# Altium footprint library mag_pos.PcbLib: 7 footprints
Each footprint in its own frame and in the unit in brackets; x right, y up, seen from the top. Pads: shape width x height; smd on the part's side, far side on the other; paste and mask are expansions set on the pad; w line width, h text height; cw(c..) or ccw(c..) is an arc to the next point about the centre after c.
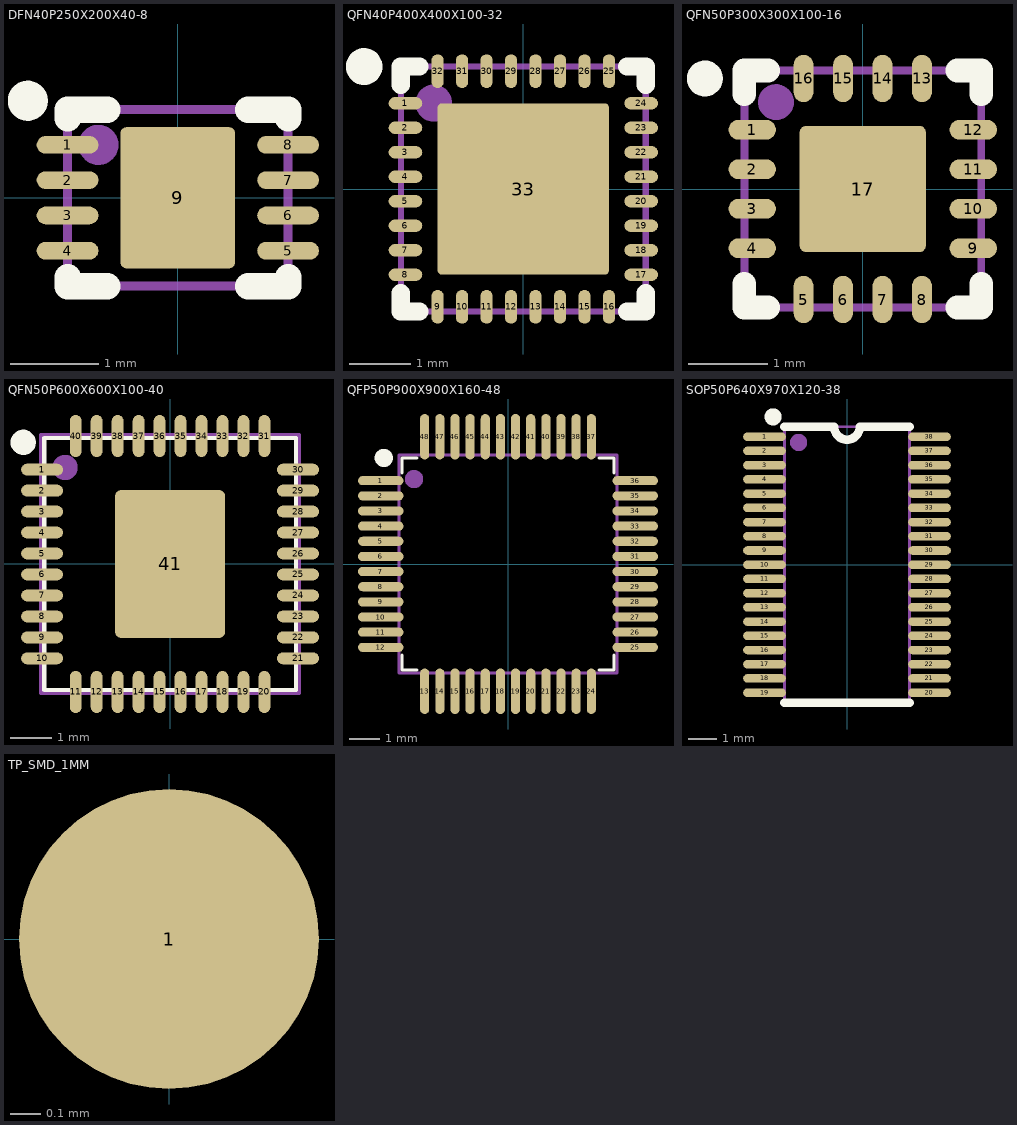
[diagram p0: the footprints below, top view; thin cyan lines are the x and y axes]

## DFN40P250X200X40-8 [mm] "Dual flat no-lead package - 16Pin - 0.4mm spacing - 0.4mm height"
height 0.4
pads (9):
  oval 0.7x0.2 smd: 1(-1.25,0.6) 2(-1.25,0.2) 3(-1.25,-0.2) 4(-1.25,-0.6) 5(1.25,-0.6) 6(1.25,-0.2) 7(1.25,0.2) 8(1.25,0.6)
  rrect10% 1.3x1.6 smd paste-2: 9(0,0)
Top Overlay:
  circle w0.254: c-1.7,1.1 r0.1
  lines w0.3: -1.25,-0.9 -1.25,-1 -0.8,-1 ; -1.25,0.9 -1.25,1 -0.8,1 ; 0.8,-1 1.25,-1 1.25,-0.9 ; 0.8,1 1.25,1 1.25,0.9
Top Paste:
  region: 0.1,0.2 0.5,0.2 0.5,0.6 0.1,0.6
  region: -0.1,-0.2 -0.5,-0.2 -0.5,-0.6 -0.1,-0.6
  region: 0.1,-0.2 0.1,-0.6 0.5,-0.6 0.5,-0.2
  region: -0.1,0.2 -0.1,0.6 -0.5,0.6 -0.5,0.2
Top Assembly:
  circle w0.254: c-0.9,0.6 r0.1
  lines w0.1: -1.25,-1 1.25,-1 1.25,1 -1.25,1 -1.25,-1
  text "'.Designator'" at -1.25,1.376 h2
3D body: height 0.41, standoff 0.4, extent -1.197,0.301 -0.6,0.9
3D body: height 0.2, standoff 0, extent -1.251,-0.7 -0.851,-0.5
3D body: height 0.2, standoff 0, extent -1.251,-0.3 -0.851,-0.1
3D body: height 0.2, standoff 0, extent -1.251,0.1 -0.851,0.3
3D body: height 0.2, standoff 0, extent -1.251,0.5 -0.851,0.7
3D body: height 0.4, standoff 0.05, extent -1.25,-1 1.25,1
3D body: height 0.2, standoff 0, extent -0.65,-0.8 0.65,0.8
3D body: height 0.2, standoff 0, extent 0.851,0.1 1.251,0.3
3D body: height 0.2, standoff 0, extent 0.851,0.5 1.251,0.7
3D body: height 0.2, standoff 0, extent 0.851,-0.7 1.251,-0.5
3D body: height 0.2, standoff 0, extent 0.851,-0.3 1.251,-0.1

## QFN40P400X400X100-32 [mm] "Quad flat no-lead package - 32Pin - 0.4mm spacing - 1mm height"
height 1
pads (33):
  oval 0.55x0.2 smd: 1(-1.925,1.4) 2(-1.925,1) 3(-1.925,0.6) 4(-1.925,0.2) 5(-1.925,-0.2) 6(-1.925,-0.6) 7(-1.925,-1) 8(-1.925,-1.4) 17(1.925,-1.4) 18(1.925,-1) 19(1.925,-0.6) 20(1.925,-0.2) 21(1.925,0.2) 22(1.925,0.6) 23(1.925,1) 24(1.925,1.4)
  oval 0.2x0.55 smd: 9(-1.4,-1.925) 10(-1,-1.925) 11(-0.6,-1.925) 12(-0.2,-1.925) 13(0.2,-1.925) 14(0.6,-1.925) 15(1,-1.925) 16(1.4,-1.925) 25(1.4,1.925) 26(1,1.925) 27(0.6,1.925) 28(0.2,1.925) 29(-0.2,1.925) 30(-0.6,1.925) 31(-1,1.925) 32(-1.4,1.925)
  rrect5% 2.8x2.8 smd paste-2: 33(0,0)
Top Overlay:
  circle w0.4: c-2.6,2 r0.1
  lines w0.3: -2,-1.7 -2,-2 -1.7,-2 ; -2,1.7 -2,2 -1.7,2 ; 1.7,-2 2,-2 2,-1.7 ; 1.7,2 2,2 2,1.7
Top Paste:
  region: 0.1,0.1 1.33,0.1 1.33,1.33 0.1,1.33
  region: 0.1,-0.1 0.1,-1.33 1.33,-1.33 1.33,-0.1
  region: -0.1,-0.1 -1.33,-0.1 -1.33,-1.33 -0.1,-1.33
  region: -0.1,0.1 -0.1,1.33 -1.33,1.33 -1.33,0.1
Top Assembly:
  circle w0.4: c-1.463,1.404 r0.1
  lines w0.1: -2,-2 -2,2 2,2 2,-2 -2,-2
  text "'.Designator'" at -2.3,2.576 h2
3D body: height 0.1, standoff 0, extent -2.001,-1.5 -1.664,-1.3
3D body: height 0.1, standoff 0, extent -2.001,1.3 -1.664,1.5
3D body: height 0.1, standoff 0, extent -1.5,1.664 -1.3,2.001
3D body: height 0.1, standoff 0, extent 1.3,1.664 1.5,2.001
3D body: height 0.1, standoff 0, extent 1.664,1.3 2.001,1.5
3D body: height 0.1, standoff 0, extent 1.664,-1.5 2.001,-1.3
3D body: height 0.1, standoff 0, extent 1.3,-2.001 1.5,-1.664
3D body: height 0.1, standoff 0, extent -1.5,-2.001 -1.3,-1.664
3D body: height 0.1, standoff 0, extent -2.001,-1.1 -1.651,-0.9
3D body: height 0.1, standoff 0, extent -2.001,-0.7 -1.651,-0.5
3D body: height 0.1, standoff 0, extent -2.001,-0.3 -1.651,-0.1
3D body: height 0.1, standoff 0, extent -2.001,0.9 -1.651,1.1
3D body: height 0.1, standoff 0, extent -2.001,0.5 -1.651,0.7
3D body: height 0.1, standoff 0, extent -2.001,0.1 -1.651,0.3
3D body: height 0.1, standoff 0, extent -1.1,1.651 -0.9,2.001
3D body: height 0.1, standoff 0, extent -0.7,1.651 -0.5,2.001
3D body: height 0.1, standoff 0, extent -0.3,1.651 -0.1,2.001
3D body: height 0.1, standoff 0, extent 0.9,1.651 1.1,2.001
3D body: height 0.1, standoff 0, extent 0.5,1.651 0.7,2.001
3D body: height 0.1, standoff 0, extent 0.1,1.651 0.3,2.001
3D body: height 0.1, standoff 0, extent 1.651,0.9 2.001,1.1
3D body: height 0.1, standoff 0, extent 1.651,0.5 2.001,0.7
3D body: height 0.1, standoff 0, extent 1.651,0.1 2.001,0.3
3D body: height 0.1, standoff 0, extent 1.651,-1.1 2.001,-0.9
3D body: height 0.1, standoff 0, extent 1.651,-0.7 2.001,-0.5
3D body: height 0.1, standoff 0, extent 1.651,-0.3 2.001,-0.1
3D body: height 0.1, standoff 0, extent 0.9,-2.001 1.1,-1.651
3D body: height 0.1, standoff 0, extent 0.5,-2.001 0.7,-1.651
3D body: height 0.1, standoff 0, extent 0.1,-2.001 0.3,-1.651
3D body: height 0.1, standoff 0, extent -1.1,-2.001 -0.9,-1.651
3D body: height 0.1, standoff 0, extent -0.7,-2.001 -0.5,-1.651
3D body: height 0.1, standoff 0, extent -0.3,-2.001 -0.1,-1.651
3D body: height 0.1, standoff 0, extent -1,0 -1,0
3D body: height 1, standoff 0.01, extent -2,-2 2,2
3D body: height 0.1, standoff 0, extent -1.4,-1.4 1.4,1.4
3D body: height 1.01, standoff 1, extent -1.699,1.101 -1.101,1.699

## QFN50P300X300X100-16 [mm] "Quad flat no-lead package - 16Pin - 0.5mm spacing - 1mm height"
height 1
pads (17):
  oval 0.6x0.25 smd: 1(-1.4,0.75) 2(-1.4,0.25) 3(-1.4,-0.25) 4(-1.4,-0.75) 9(1.4,-0.75) 10(1.4,-0.25) 11(1.4,0.25) 12(1.4,0.75)
  oval 0.25x0.6 smd: 5(-0.75,-1.4) 6(-0.25,-1.4) 7(0.25,-1.4) 8(0.75,-1.4) 13(0.75,1.4) 14(0.25,1.4) 15(-0.25,1.4) 16(-0.75,1.4)
  rrect10% 1.6x1.6 smd paste-2: 17(0,0)
Top Overlay:
  circle w0.254: c-2,1.4 r0.1
  lines w0.3: -1.5,-1.2 -1.5,-1.5 -1.2,-1.5 ; -1.5,1.2 -1.5,1.5 -1.2,1.5 ; 1.2,-1.5 1.5,-1.5 1.5,-1.2 ; 1.2,1.5 1.5,1.5 1.5,1.2
Top Paste:
  region: 0.2,0.2 0.6,0.2 0.6,0.6 0.2,0.6
  region: -0.2,-0.2 -0.6,-0.2 -0.6,-0.6 -0.2,-0.6
  region: 0.2,-0.2 0.2,-0.6 0.6,-0.6 0.6,-0.2
  region: -0.2,0.2 -0.2,0.6 -0.6,0.6 -0.6,0.2
Top Assembly:
  circle w0.254: c-1.1,1.1 r0.1
  lines w0.1: -1.5,-1.5 1.5,-1.5 1.5,1.5 -1.5,1.5 -1.5,-1.5
  text "'.Designator'" at -1.6,2.076 h2
3D body: height 0.5, standoff 0, extent -0.8,-0.8 0.8,0.8
3D body: height 1.01, standoff 1, extent -1.398,0.801 -0.8,1.399
3D body: height 0.2, standoff 0, extent -1.551,-0.85 -1.151,-0.65
3D body: height 0.2, standoff 0, extent -1.551,-0.35 -1.151,-0.15
3D body: height 0.2, standoff 0, extent -0.35,-1.551 -0.15,-1.151
3D body: height 0.2, standoff 0, extent -0.85,-1.551 -0.65,-1.151
3D body: height 0.2, standoff 0, extent -1.551,0.15 -1.151,0.35
3D body: height 0.2, standoff 0, extent -1.551,0.65 -1.151,0.85
3D body: height 0.2, standoff 0, extent -0.85,1.151 -0.65,1.551
3D body: height 0.2, standoff 0, extent -0.35,1.151 -0.15,1.551
3D body: height 0.2, standoff 0, extent 1.151,-0.35 1.551,-0.15
3D body: height 0.2, standoff 0, extent 1.151,-0.85 1.551,-0.65
3D body: height 0.2, standoff 0, extent 0.65,-1.551 0.85,-1.151
3D body: height 0.2, standoff 0, extent 0.15,-1.551 0.35,-1.151
3D body: height 0.2, standoff 0, extent 0.15,1.151 0.35,1.551
3D body: height 0.2, standoff 0, extent 0.65,1.151 0.85,1.551
3D body: height 0.2, standoff 0, extent 1.151,0.65 1.551,0.85
3D body: height 0.2, standoff 0, extent 1.151,0.15 1.551,0.35
3D body: height 1, standoff 0.05, extent -1.55,-1.55 1.55,1.55

## QFN50P600X600X100-40 [mm] "Quad flad no-lead, 40 pin, 0.5mm spacing, 1.0mm height"
height 1
pads (41):
  oval 1x0.28 smd: 1(-3.05,2.25) 2(-3.05,1.75) 3(-3.05,1.25) 4(-3.05,0.75) 5(-3.05,0.25) 6(-3.05,-0.25) 7(-3.05,-0.75) 8(-3.05,-1.25) 9(-3.05,-1.75) 10(-3.05,-2.25) 21(3.05,-2.25) 22(3.05,-1.75) 23(3.05,-1.25) 24(3.05,-0.75) 25(3.05,-0.25) 26(3.05,0.25) 27(3.05,0.75) 28(3.05,1.25) 29(3.05,1.75) 30(3.05,2.25)
  oval 0.28x1 smd: 11(-2.25,-3.05) 12(-1.75,-3.05) 13(-1.25,-3.05) 14(-0.75,-3.05) 15(-0.25,-3.05) 16(0.25,-3.05) 17(0.75,-3.05) 18(1.25,-3.05) 19(1.75,-3.05) 20(2.25,-3.05) 31(2.25,3.05) 32(1.75,3.05) 33(1.25,3.05) 34(0.75,3.05) 35(0.25,3.05) 36(-0.25,3.05) 37(-0.75,3.05) 38(-1.25,3.05) 39(-1.75,3.05) 40(-2.25,3.05)
  rrect10% 2.62x3.52 smd paste-5: 41(0,0)
Top Overlay:
  circle w0.4: c-3.5,2.9 r0.1
  lines w0.1: -3,-3 -3,3 3,3 3,-3 -3,-3
Top Paste:
  region: 0.15,0.15 1.15,0.15 1.15,1.65 0.15,1.65
  region: -0.15,0.15 -1.15,0.15 -1.15,1.65 -0.15,1.65
  region: -0.15,-0.15 -1.15,-0.15 -1.15,-1.65 -0.15,-1.65
  region: 0.15,-0.15 1.15,-0.15 1.15,-1.65 0.15,-1.65
Top Assembly:
  circle w0.4: c-2.5,2.3 r0.1
  lines w0.1: -3.075,-3.075 -3.075,3.075 3.075,3.075 3.075,-3.075 -3.075,-3.075
  text "'.Designator'" at -3.5,3.976 h2
3D body: height 0.2, standoff 0, extent -1.31,-1.76 1.31,1.76
3D body: height 1, standoff 0.05, extent -3.075,-3.075 3.075,3.075
3D body: height 0.2, standoff 0, extent -3.085,2.125 -2.585,2.375
3D body: height 0.2, standoff 0, extent -3.085,0.125 -2.585,0.375
3D body: height 0.2, standoff 0, extent -3.085,0.625 -2.585,0.875
3D body: height 0.2, standoff 0, extent -3.085,1.125 -2.585,1.375
3D body: height 0.2, standoff 0, extent -3.085,1.625 -2.585,1.875
3D body: height 0.2, standoff 0, extent -3.085,-1.875 -2.585,-1.625
3D body: height 0.2, standoff 0, extent -3.085,-1.375 -2.585,-1.125
3D body: height 0.2, standoff 0, extent -3.085,-0.875 -2.585,-0.625
3D body: height 0.2, standoff 0, extent -3.085,-0.375 -2.585,-0.125
3D body: height 0.2, standoff 0, extent -3.085,-2.375 -2.585,-2.125
3D body: height 0.2, standoff 0, extent -2.375,-3.085 -2.125,-2.585
3D body: height 0.2, standoff 0, extent -0.375,-3.085 -0.125,-2.585
3D body: height 0.2, standoff 0, extent -0.875,-3.085 -0.625,-2.585
3D body: height 0.2, standoff 0, extent -1.375,-3.085 -1.125,-2.585
3D body: height 0.2, standoff 0, extent -1.875,-3.085 -1.625,-2.585
3D body: height 0.2, standoff 0, extent 1.625,-3.085 1.875,-2.585
3D body: height 0.2, standoff 0, extent 1.125,-3.085 1.375,-2.585
3D body: height 0.2, standoff 0, extent 0.625,-3.085 0.875,-2.585
3D body: height 0.2, standoff 0, extent 0.125,-3.085 0.375,-2.585
3D body: height 0.2, standoff 0, extent 2.125,-3.085 2.375,-2.585
3D body: height 0.2, standoff 0, extent 2.585,-2.375 3.085,-2.125
3D body: height 0.2, standoff 0, extent 2.585,-0.375 3.085,-0.125
3D body: height 0.2, standoff 0, extent 2.585,-0.875 3.085,-0.625
3D body: height 0.2, standoff 0, extent 2.585,-1.375 3.085,-1.125
3D body: height 0.2, standoff 0, extent 2.585,-1.875 3.085,-1.625
3D body: height 0.2, standoff 0, extent 2.585,1.625 3.085,1.875
3D body: height 0.2, standoff 0, extent 2.585,1.125 3.085,1.375
3D body: height 0.2, standoff 0, extent 2.585,0.625 3.085,0.875
3D body: height 0.2, standoff 0, extent 2.585,0.125 3.085,0.375
3D body: height 0.2, standoff 0, extent 2.585,2.125 3.085,2.375
3D body: height 0.2, standoff 0, extent 2.125,2.585 2.375,3.085
3D body: height 0.2, standoff 0, extent 0.125,2.585 0.375,3.085
3D body: height 0.2, standoff 0, extent 0.625,2.585 0.875,3.085
3D body: height 0.2, standoff 0, extent 1.125,2.585 1.375,3.085
3D body: height 0.2, standoff 0, extent 1.625,2.585 1.875,3.085
3D body: height 0.2, standoff 0, extent -1.875,2.585 -1.625,3.085
3D body: height 0.2, standoff 0, extent -1.375,2.585 -1.125,3.085
3D body: height 0.2, standoff 0, extent -0.875,2.585 -0.625,3.085
3D body: height 0.2, standoff 0, extent -0.375,2.585 -0.125,3.085
3D body: height 0.2, standoff 0, extent -2.375,2.585 -2.125,3.085
3D body: height 1.01, standoff 1, extent -2.799,2.001 -2.201,2.599

## QFP50P900X900X160-48 [mm] "Quad flat pin package, 48 Pin, 0.5mm Spacing, 1.6mm Height"
height 1.6
pads (48):
  oval 1.5x0.3 smd: 1(-4.2,2.75) 2(-4.2,2.25) 3(-4.2,1.75) 4(-4.2,1.25) 5(-4.2,0.75) 6(-4.2,0.25) 7(-4.2,-0.25) 8(-4.2,-0.75) 9(-4.2,-1.25) 10(-4.2,-1.75) 11(-4.2,-2.25) 12(-4.2,-2.75) 25(4.2,-2.75) 26(4.2,-2.25) 27(4.2,-1.75) 28(4.2,-1.25) 29(4.2,-0.75) 30(4.2,-0.25) 31(4.2,0.25) 32(4.2,0.75) 33(4.2,1.25) 34(4.2,1.75) 35(4.2,2.25) 36(4.2,2.75)
  oval 0.3x1.5 smd: 13(-2.75,-4.2) 14(-2.25,-4.2) 15(-1.75,-4.2) 16(-1.25,-4.2) 17(-0.75,-4.2) 18(-0.25,-4.2) 19(0.25,-4.2) 20(0.75,-4.2) 21(1.25,-4.2) 22(1.75,-4.2) 23(2.25,-4.2) 24(2.75,-4.2) 37(2.75,4.2) 38(2.25,4.2) 39(1.75,4.2) 40(1.25,4.2) 41(0.75,4.2) 42(0.25,4.2) 43(-0.25,4.2) 44(-0.75,4.2) 45(-1.25,4.2) 46(-1.75,4.2) 47(-2.25,4.2) 48(-2.75,4.2)
Top Overlay:
  circle w0.4: c-4.1,3.5 r0.1
  lines w0.1: -3.5,-3 -3.5,-3.5 -3,-3.5 ; -3.5,3 -3.5,3.5 -3,3.5 ; 3,-3.5 3.5,-3.5 3.5,-3 ; 3,3.5 3.5,3.5 3.5,3
Top Assembly:
  circle w0.4: c-3.1,2.8 r0.1
  lines w0.1: -3.6,-3.6 -3.6,3.6 3.6,3.6 3.6,-3.6 -3.6,-3.6
  text "'.Designator'" at -4.9,5.576 h2
3D body: height 1.61, standoff 1.6, extent -3.198,2.501 -2.6,3.1
3D body: height 1.6, standoff 0.05, extent -3.6,-3.6 3.6,3.6
3D body: height 0.15, standoff 0, extent -4.6,0.15 -4,0.35
3D body: height 0.8, standoff 0.15, extent -4.15,0.15 -4,0.35
3D body: height 0.95, standoff 0.8, extent -4.15,0.15 -3.6,0.35
3D body: height 0.15, standoff 0, extent -4.6,0.65 -4,0.85
3D body: height 0.8, standoff 0.15, extent -4.15,0.65 -4,0.85
3D body: height 0.95, standoff 0.8, extent -4.15,0.65 -3.6,0.85
3D body: height 0.15, standoff 0, extent -4.6,1.15 -4,1.35
3D body: height 0.8, standoff 0.15, extent -4.15,1.15 -4,1.35
3D body: height 0.95, standoff 0.8, extent -4.15,1.15 -3.6,1.35
3D body: height 0.15, standoff 0, extent -4.6,1.65 -4,1.85
3D body: height 0.8, standoff 0.15, extent -4.15,1.65 -4,1.85
3D body: height 0.95, standoff 0.8, extent -4.15,1.65 -3.6,1.85
3D body: height 0.15, standoff 0, extent -4.6,2.15 -4,2.35
3D body: height 0.8, standoff 0.15, extent -4.15,2.15 -4,2.35
3D body: height 0.95, standoff 0.8, extent -4.15,2.15 -3.6,2.35
3D body: height 0.15, standoff 0, extent -4.6,2.65 -4,2.85
3D body: height 0.8, standoff 0.15, extent -4.15,2.65 -4,2.85
3D body: height 0.95, standoff 0.8, extent -4.15,2.65 -3.6,2.85
3D body: height 0.15, standoff 0, extent -4.6,-2.85 -4,-2.65
3D body: height 0.8, standoff 0.15, extent -4.15,-2.85 -4,-2.65
3D body: height 0.95, standoff 0.8, extent -4.15,-2.85 -3.6,-2.65
3D body: height 0.15, standoff 0, extent -4.6,-2.35 -4,-2.15
3D body: height 0.8, standoff 0.15, extent -4.15,-2.35 -4,-2.15
3D body: height 0.95, standoff 0.8, extent -4.15,-2.35 -3.6,-2.15
3D body: height 0.15, standoff 0, extent -4.6,-1.85 -4,-1.65
3D body: height 0.8, standoff 0.15, extent -4.15,-1.85 -4,-1.65
3D body: height 0.95, standoff 0.8, extent -4.15,-1.85 -3.6,-1.65
3D body: height 0.15, standoff 0, extent -4.6,-1.35 -4,-1.15
3D body: height 0.8, standoff 0.15, extent -4.15,-1.35 -4,-1.15
3D body: height 0.95, standoff 0.8, extent -4.15,-1.35 -3.6,-1.15
3D body: height 0.15, standoff 0, extent -4.6,-0.85 -4,-0.65
3D body: height 0.8, standoff 0.15, extent -4.15,-0.85 -4,-0.65
3D body: height 0.95, standoff 0.8, extent -4.15,-0.85 -3.6,-0.65
3D body: height 0.15, standoff 0, extent -4.6,-0.35 -4,-0.15
3D body: height 0.8, standoff 0.15, extent -4.15,-0.35 -4,-0.15
3D body: height 0.95, standoff 0.8, extent -4.15,-0.35 -3.6,-0.15
3D body: height 0.15, standoff 0, extent -0.35,-4.6 -0.15,-4
3D body: height 0.8, standoff 0.15, extent -0.35,-4.15 -0.15,-4
3D body: height 0.95, standoff 0.8, extent -0.35,-4.15 -0.15,-3.6
3D body: height 0.15, standoff 0, extent -0.85,-4.6 -0.65,-4
3D body: height 0.8, standoff 0.15, extent -0.85,-4.15 -0.65,-4
3D body: height 0.95, standoff 0.8, extent -0.85,-4.15 -0.65,-3.6
3D body: height 0.15, standoff 0, extent -1.35,-4.6 -1.15,-4
3D body: height 0.8, standoff 0.15, extent -1.35,-4.15 -1.15,-4
3D body: height 0.95, standoff 0.8, extent -1.35,-4.15 -1.15,-3.6
3D body: height 0.15, standoff 0, extent -1.85,-4.6 -1.65,-4
3D body: height 0.8, standoff 0.15, extent -1.85,-4.15 -1.65,-4
3D body: height 0.95, standoff 0.8, extent -1.85,-4.15 -1.65,-3.6
3D body: height 0.15, standoff 0, extent -2.35,-4.6 -2.15,-4
3D body: height 0.8, standoff 0.15, extent -2.35,-4.15 -2.15,-4
3D body: height 0.95, standoff 0.8, extent -2.35,-4.15 -2.15,-3.6
3D body: height 0.15, standoff 0, extent -2.85,-4.6 -2.65,-4
3D body: height 0.8, standoff 0.15, extent -2.85,-4.15 -2.65,-4
3D body: height 0.95, standoff 0.8, extent -2.85,-4.15 -2.65,-3.6
3D body: height 0.15, standoff 0, extent 2.65,-4.6 2.85,-4
3D body: height 0.8, standoff 0.15, extent 2.65,-4.15 2.85,-4
3D body: height 0.95, standoff 0.8, extent 2.65,-4.15 2.85,-3.6
3D body: height 0.15, standoff 0, extent 2.15,-4.6 2.35,-4
3D body: height 0.8, standoff 0.15, extent 2.15,-4.15 2.35,-4
3D body: height 0.95, standoff 0.8, extent 2.15,-4.15 2.35,-3.6
3D body: height 0.15, standoff 0, extent 1.65,-4.6 1.85,-4
3D body: height 0.8, standoff 0.15, extent 1.65,-4.15 1.85,-4
3D body: height 0.95, standoff 0.8, extent 1.65,-4.15 1.85,-3.6
3D body: height 0.15, standoff 0, extent 1.15,-4.6 1.35,-4
3D body: height 0.8, standoff 0.15, extent 1.15,-4.15 1.35,-4
3D body: height 0.95, standoff 0.8, extent 1.15,-4.15 1.35,-3.6
3D body: height 0.15, standoff 0, extent 0.65,-4.6 0.85,-4
3D body: height 0.8, standoff 0.15, extent 0.65,-4.15 0.85,-4
3D body: height 0.95, standoff 0.8, extent 0.65,-4.15 0.85,-3.6
3D body: height 0.15, standoff 0, extent 0.15,-4.6 0.35,-4
3D body: height 0.8, standoff 0.15, extent 0.15,-4.15 0.35,-4
3D body: height 0.95, standoff 0.8, extent 0.15,-4.15 0.35,-3.6
3D body: height 0.15, standoff 0, extent 4,-0.35 4.6,-0.15
3D body: height 0.8, standoff 0.15, extent 4,-0.35 4.15,-0.15
3D body: height 0.95, standoff 0.8, extent 3.6,-0.35 4.15,-0.15
3D body: height 0.15, standoff 0, extent 4,-0.85 4.6,-0.65
3D body: height 0.8, standoff 0.15, extent 4,-0.85 4.15,-0.65
3D body: height 0.95, standoff 0.8, extent 3.6,-0.85 4.15,-0.65
3D body: height 0.15, standoff 0, extent 4,-1.35 4.6,-1.15
3D body: height 0.8, standoff 0.15, extent 4,-1.35 4.15,-1.15
3D body: height 0.95, standoff 0.8, extent 3.6,-1.35 4.15,-1.15
3D body: height 0.15, standoff 0, extent 4,-1.85 4.6,-1.65
3D body: height 0.8, standoff 0.15, extent 4,-1.85 4.15,-1.65
3D body: height 0.95, standoff 0.8, extent 3.6,-1.85 4.15,-1.65
3D body: height 0.15, standoff 0, extent 4,-2.35 4.6,-2.15
3D body: height 0.8, standoff 0.15, extent 4,-2.35 4.15,-2.15
3D body: height 0.95, standoff 0.8, extent 3.6,-2.35 4.15,-2.15
3D body: height 0.15, standoff 0, extent 4,-2.85 4.6,-2.65
3D body: height 0.8, standoff 0.15, extent 4,-2.85 4.15,-2.65
3D body: height 0.95, standoff 0.8, extent 3.6,-2.85 4.15,-2.65
3D body: height 0.15, standoff 0, extent 4,2.65 4.6,2.85
3D body: height 0.8, standoff 0.15, extent 4,2.65 4.15,2.85
3D body: height 0.95, standoff 0.8, extent 3.6,2.65 4.15,2.85
3D body: height 0.15, standoff 0, extent 4,2.15 4.6,2.35
3D body: height 0.8, standoff 0.15, extent 4,2.15 4.15,2.35
3D body: height 0.95, standoff 0.8, extent 3.6,2.15 4.15,2.35
3D body: height 0.15, standoff 0, extent 4,1.65 4.6,1.85
3D body: height 0.8, standoff 0.15, extent 4,1.65 4.15,1.85
3D body: height 0.95, standoff 0.8, extent 3.6,1.65 4.15,1.85
3D body: height 0.15, standoff 0, extent 4,1.15 4.6,1.35
3D body: height 0.8, standoff 0.15, extent 4,1.15 4.15,1.35
3D body: height 0.95, standoff 0.8, extent 3.6,1.15 4.15,1.35
3D body: height 0.15, standoff 0, extent 4,0.65 4.6,0.85
3D body: height 0.8, standoff 0.15, extent 4,0.65 4.15,0.85
3D body: height 0.95, standoff 0.8, extent 3.6,0.65 4.15,0.85
3D body: height 0.15, standoff 0, extent 4,0.15 4.6,0.35
3D body: height 0.8, standoff 0.15, extent 4,0.15 4.15,0.35
3D body: height 0.95, standoff 0.8, extent 3.6,0.15 4.15,0.35
3D body: height 0.15, standoff 0, extent 0.15,4 0.35,4.6
3D body: height 0.8, standoff 0.15, extent 0.15,4 0.35,4.15
3D body: height 0.95, standoff 0.8, extent 0.15,3.6 0.35,4.15
3D body: height 0.15, standoff 0, extent 0.65,4 0.85,4.6
3D body: height 0.8, standoff 0.15, extent 0.65,4 0.85,4.15
3D body: height 0.95, standoff 0.8, extent 0.65,3.6 0.85,4.15
3D body: height 0.15, standoff 0, extent 1.15,4 1.35,4.6
3D body: height 0.8, standoff 0.15, extent 1.15,4 1.35,4.15
3D body: height 0.95, standoff 0.8, extent 1.15,3.6 1.35,4.15
3D body: height 0.15, standoff 0, extent 1.65,4 1.85,4.6
3D body: height 0.8, standoff 0.15, extent 1.65,4 1.85,4.15
3D body: height 0.95, standoff 0.8, extent 1.65,3.6 1.85,4.15
3D body: height 0.15, standoff 0, extent 2.15,4 2.35,4.6
3D body: height 0.8, standoff 0.15, extent 2.15,4 2.35,4.15
3D body: height 0.95, standoff 0.8, extent 2.15,3.6 2.35,4.15
3D body: height 0.15, standoff 0, extent 2.65,4 2.85,4.6
3D body: height 0.8, standoff 0.15, extent 2.65,4 2.85,4.15
3D body: height 0.95, standoff 0.8, extent 2.65,3.6 2.85,4.15
3D body: height 0.15, standoff 0, extent -2.85,4 -2.65,4.6
3D body: height 0.8, standoff 0.15, extent -2.85,4 -2.65,4.15
3D body: height 0.95, standoff 0.8, extent -2.85,3.6 -2.65,4.15
3D body: height 0.15, standoff 0, extent -2.35,4 -2.15,4.6
3D body: height 0.8, standoff 0.15, extent -2.35,4 -2.15,4.15
3D body: height 0.95, standoff 0.8, extent -2.35,3.6 -2.15,4.15
3D body: height 0.15, standoff 0, extent -1.85,4 -1.65,4.6
3D body: height 0.8, standoff 0.15, extent -1.85,4 -1.65,4.15
3D body: height 0.95, standoff 0.8, extent -1.85,3.6 -1.65,4.15
3D body: height 0.15, standoff 0, extent -1.35,4 -1.15,4.6
3D body: height 0.8, standoff 0.15, extent -1.35,4 -1.15,4.15
3D body: height 0.95, standoff 0.8, extent -1.35,3.6 -1.15,4.15
3D body: height 0.15, standoff 0, extent -0.85,4 -0.65,4.6
3D body: height 0.8, standoff 0.15, extent -0.85,4 -0.65,4.15
3D body: height 0.95, standoff 0.8, extent -0.85,3.6 -0.65,4.15
3D body: height 0.15, standoff 0, extent -0.35,4 -0.15,4.6
3D body: height 0.8, standoff 0.15, extent -0.35,4 -0.15,4.15
3D body: height 0.95, standoff 0.8, extent -0.35,3.6 -0.15,4.15

## SOP50P640X970X120-38 [mm] "TSSOP 38Pin 0.5mm pitch 1.2mm height"
height 1.2
pads (38):
  oval 1.5x0.3 smd: 1(-2.9,4.5) 2(-2.9,4) 3(-2.9,3.5) 4(-2.9,3) 5(-2.9,2.5) 6(-2.9,2) 7(-2.9,1.5) 8(-2.9,1) 9(-2.9,0.5) 10(-2.9,0) 11(-2.9,-0.5) 12(-2.9,-1) 13(-2.9,-1.5) 14(-2.9,-2) 15(-2.9,-2.5) 16(-2.9,-3) 17(-2.9,-3.5) 18(-2.9,-4) 19(-2.9,-4.5) 20(2.9,-4.5) 21(2.9,-4) 22(2.9,-3.5) 23(2.9,-3) 24(2.9,-2.5) 25(2.9,-2) 26(2.9,-1.5) 27(2.9,-1) 28(2.9,-0.5) 29(2.9,0) 30(2.9,0.5) 31(2.9,1) 32(2.9,1.5) 33(2.9,2) 34(2.9,2.5) 35(2.9,3) 36(2.9,3.5) 37(2.9,4) 38(2.9,4.5)
Top Overlay:
  circle w0.4: c-2.6,5.2 r0.1
  lines w0.3: -2.2,-4.85 2.2,-4.85 ; -2.2,4.85 -0.45,4.85 ccw(c0,4.85) 0.45,4.85 2.2,4.85
Top Assembly:
  circle w0.4: c-1.7,4.3 r0.1
  lines w0.1: -2.2,-4.85 2.2,-4.85 2.2,4.85 -2.2,4.85 -2.2,-4.85
  text "'.Designator'" at -2.4,5.226 h2
3D body: height 1.21, standoff 1.2, extent -1.997,4.001 -1.4,4.6
3D body: height 0.65, standoff 0.5, extent 2.2,4.4 2.75,4.6
3D body: height 0.5, standoff 0.15, extent 2.6,4.4 2.75,4.6
3D body: height 0.15, standoff 0, extent 2.6,4.4 3.3,4.6
3D body: height 0.65, standoff 0.5, extent 2.2,3.9 2.75,4.1
3D body: height 0.5, standoff 0.15, extent 2.6,3.9 2.75,4.1
3D body: height 0.15, standoff 0, extent 2.6,3.9 3.3,4.1
3D body: height 0.65, standoff 0.5, extent 2.2,3.4 2.75,3.6
3D body: height 0.5, standoff 0.15, extent 2.6,3.4 2.75,3.6
3D body: height 0.15, standoff 0, extent 2.6,3.4 3.3,3.6
3D body: height 0.65, standoff 0.5, extent 2.2,2.9 2.75,3.1
3D body: height 0.5, standoff 0.15, extent 2.6,2.9 2.75,3.1
3D body: height 0.15, standoff 0, extent 2.6,2.9 3.3,3.1
3D body: height 0.65, standoff 0.5, extent 2.2,2.4 2.75,2.6
3D body: height 0.5, standoff 0.15, extent 2.6,2.4 2.75,2.6
3D body: height 0.15, standoff 0, extent 2.6,2.4 3.3,2.6
3D body: height 0.65, standoff 0.5, extent 2.2,1.9 2.75,2.1
3D body: height 0.5, standoff 0.15, extent 2.6,1.9 2.75,2.1
3D body: height 0.15, standoff 0, extent 2.6,1.9 3.3,2.1
3D body: height 0.65, standoff 0.5, extent 2.2,1.4 2.75,1.6
3D body: height 0.5, standoff 0.15, extent 2.6,1.4 2.75,1.6
3D body: height 0.15, standoff 0, extent 2.6,1.4 3.3,1.6
3D body: height 0.65, standoff 0.5, extent 2.2,0.9 2.75,1.1
3D body: height 0.5, standoff 0.15, extent 2.6,0.9 2.75,1.1
3D body: height 0.15, standoff 0, extent 2.6,0.9 3.3,1.1
3D body: height 0.65, standoff 0.5, extent 2.2,0.4 2.75,0.6
3D body: height 0.5, standoff 0.15, extent 2.6,0.4 2.75,0.6
3D body: height 0.15, standoff 0, extent 2.6,0.4 3.3,0.6
3D body: height 0.65, standoff 0.5, extent 2.2,-0.6 2.75,-0.4
3D body: height 0.5, standoff 0.15, extent 2.6,-0.6 2.75,-0.4
3D body: height 0.15, standoff 0, extent 2.6,-0.6 3.3,-0.4
3D body: height 0.65, standoff 0.5, extent 2.2,-1.1 2.75,-0.9
3D body: height 0.5, standoff 0.15, extent 2.6,-1.1 2.75,-0.9
3D body: height 0.15, standoff 0, extent 2.6,-1.1 3.3,-0.9
3D body: height 0.65, standoff 0.5, extent 2.2,-1.6 2.75,-1.4
3D body: height 0.5, standoff 0.15, extent 2.6,-1.6 2.75,-1.4
3D body: height 0.15, standoff 0, extent 2.6,-1.6 3.3,-1.4
3D body: height 0.65, standoff 0.5, extent 2.2,-2.1 2.75,-1.9
3D body: height 0.5, standoff 0.15, extent 2.6,-2.1 2.75,-1.9
3D body: height 0.15, standoff 0, extent 2.6,-2.1 3.3,-1.9
3D body: height 0.65, standoff 0.5, extent 2.2,-2.6 2.75,-2.4
3D body: height 0.5, standoff 0.15, extent 2.6,-2.6 2.75,-2.4
3D body: height 0.15, standoff 0, extent 2.6,-2.6 3.3,-2.4
3D body: height 0.65, standoff 0.5, extent 2.2,-3.1 2.75,-2.9
3D body: height 0.5, standoff 0.15, extent 2.6,-3.1 2.75,-2.9
3D body: height 0.15, standoff 0, extent 2.6,-3.1 3.3,-2.9
3D body: height 0.65, standoff 0.5, extent 2.2,-3.6 2.75,-3.4
3D body: height 0.5, standoff 0.15, extent 2.6,-3.6 2.75,-3.4
3D body: height 0.15, standoff 0, extent 2.6,-3.6 3.3,-3.4
3D body: height 0.65, standoff 0.5, extent 2.2,-4.1 2.75,-3.9
3D body: height 0.5, standoff 0.15, extent 2.6,-4.1 2.75,-3.9
3D body: height 0.15, standoff 0, extent 2.6,-4.1 3.3,-3.9
3D body: height 0.65, standoff 0.5, extent 2.2,-4.6 2.75,-4.4
3D body: height 0.5, standoff 0.15, extent 2.6,-4.6 2.75,-4.4
3D body: height 0.15, standoff 0, extent 2.6,-4.6 3.3,-4.4
3D body: height 0.65, standoff 0.5, extent 2.2,-0.1 2.75,0.1
3D body: height 0.5, standoff 0.15, extent 2.6,-0.1 2.75,0.1
3D body: height 0.15, standoff 0, extent 2.6,-0.1 3.3,0.1
3D body: height 0.65, standoff 0.5, extent -2.75,-4.6 -2.2,-4.4
3D body: height 0.5, standoff 0.15, extent -2.75,-4.6 -2.6,-4.4
3D body: height 0.15, standoff 0, extent -3.3,-4.6 -2.6,-4.4
3D body: height 0.65, standoff 0.5, extent -2.75,-4.1 -2.2,-3.9
3D body: height 0.5, standoff 0.15, extent -2.75,-4.1 -2.6,-3.9
3D body: height 0.15, standoff 0, extent -3.3,-4.1 -2.6,-3.9
3D body: height 0.65, standoff 0.5, extent -2.75,-3.6 -2.2,-3.4
3D body: height 0.5, standoff 0.15, extent -2.75,-3.6 -2.6,-3.4
3D body: height 0.15, standoff 0, extent -3.3,-3.6 -2.6,-3.4
3D body: height 0.65, standoff 0.5, extent -2.75,-3.1 -2.2,-2.9
3D body: height 0.5, standoff 0.15, extent -2.75,-3.1 -2.6,-2.9
3D body: height 0.15, standoff 0, extent -3.3,-3.1 -2.6,-2.9
3D body: height 0.65, standoff 0.5, extent -2.75,-2.6 -2.2,-2.4
3D body: height 0.5, standoff 0.15, extent -2.75,-2.6 -2.6,-2.4
3D body: height 0.15, standoff 0, extent -3.3,-2.6 -2.6,-2.4
3D body: height 0.65, standoff 0.5, extent -2.75,-2.1 -2.2,-1.9
3D body: height 0.5, standoff 0.15, extent -2.75,-2.1 -2.6,-1.9
3D body: height 0.15, standoff 0, extent -3.3,-2.1 -2.6,-1.9
3D body: height 0.65, standoff 0.5, extent -2.75,-1.6 -2.2,-1.4
3D body: height 0.5, standoff 0.15, extent -2.75,-1.6 -2.6,-1.4
3D body: height 0.15, standoff 0, extent -3.3,-1.6 -2.6,-1.4
3D body: height 0.65, standoff 0.5, extent -2.75,-1.1 -2.2,-0.9
3D body: height 0.5, standoff 0.15, extent -2.75,-1.1 -2.6,-0.9
3D body: height 0.15, standoff 0, extent -3.3,-1.1 -2.6,-0.9
3D body: height 0.65, standoff 0.5, extent -2.75,-0.6 -2.2,-0.4
3D body: height 0.5, standoff 0.15, extent -2.75,-0.6 -2.6,-0.4
3D body: height 0.15, standoff 0, extent -3.3,-0.6 -2.6,-0.4
3D body: height 0.65, standoff 0.5, extent -2.75,0.4 -2.2,0.6
3D body: height 0.5, standoff 0.15, extent -2.75,0.4 -2.6,0.6
3D body: height 0.15, standoff 0, extent -3.3,0.4 -2.6,0.6
3D body: height 0.65, standoff 0.5, extent -2.75,0.9 -2.2,1.1
3D body: height 0.5, standoff 0.15, extent -2.75,0.9 -2.6,1.1
3D body: height 0.15, standoff 0, extent -3.3,0.9 -2.6,1.1
3D body: height 0.65, standoff 0.5, extent -2.75,1.4 -2.2,1.6
3D body: height 0.5, standoff 0.15, extent -2.75,1.4 -2.6,1.6
3D body: height 0.15, standoff 0, extent -3.3,1.4 -2.6,1.6
3D body: height 0.65, standoff 0.5, extent -2.75,1.9 -2.2,2.1
3D body: height 0.5, standoff 0.15, extent -2.75,1.9 -2.6,2.1
3D body: height 0.15, standoff 0, extent -3.3,1.9 -2.6,2.1
3D body: height 0.65, standoff 0.5, extent -2.75,2.4 -2.2,2.6
3D body: height 0.5, standoff 0.15, extent -2.75,2.4 -2.6,2.6
3D body: height 0.15, standoff 0, extent -3.3,2.4 -2.6,2.6
3D body: height 0.65, standoff 0.5, extent -2.75,2.9 -2.2,3.1
3D body: height 0.5, standoff 0.15, extent -2.75,2.9 -2.6,3.1
3D body: height 0.15, standoff 0, extent -3.3,2.9 -2.6,3.1
3D body: height 0.65, standoff 0.5, extent -2.75,3.4 -2.2,3.6
3D body: height 0.5, standoff 0.15, extent -2.75,3.4 -2.6,3.6
3D body: height 0.15, standoff 0, extent -3.3,3.4 -2.6,3.6
3D body: height 0.65, standoff 0.5, extent -2.75,3.9 -2.2,4.1
3D body: height 0.5, standoff 0.15, extent -2.75,3.9 -2.6,4.1
3D body: height 0.15, standoff 0, extent -3.3,3.9 -2.6,4.1
3D body: height 0.65, standoff 0.5, extent -2.75,4.4 -2.2,4.6
3D body: height 0.5, standoff 0.15, extent -2.75,4.4 -2.6,4.6
3D body: height 0.15, standoff 0, extent -3.3,4.4 -2.6,4.6
3D body: height 0.65, standoff 0.5, extent -2.75,-0.1 -2.2,0.1
3D body: height 0.5, standoff 0.15, extent -2.75,-0.1 -2.6,0.1
3D body: height 0.15, standoff 0, extent -3.3,-0.1 -2.6,0.1
3D body: height 1.2, standoff 0.1, extent -2.2,-4.85 2.2,4.85

## TP_SMD_1MM [mm] "Testpoint SMD 1mm"
pads (1):
  round 1 smd: 1(0,0)
Top Assembly:
  text "'.Designator'" at -0.5,0.876 h2
3D body: height 0.1, standoff 0, extent -0.498,-0.499 0.498,0.499